# EAGLE library part ICSP_PROG_6PIN_02X03_P2.54MM (library Connector_ICSP)
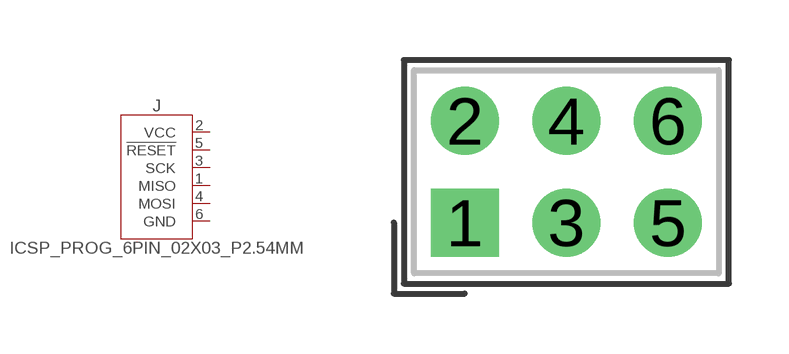
[diagram p0: symbol with the pads of 02X03_P2.54MM; footprint 02X03_P2.54MM]

Designator prefix J

## ICSP_PROG_6PIN_02X03_P2.54MM  [02X03_P2.54MM]
1  MISO  out
2  VCC  pwr
3  SCK  in
4  MOSI  in
5  !RESET  in
6  GND  pwr

## Footprint 02X03_P2.54MM (pad centres in mm)
drill 1 pad 1.7 square: 1 -2.54,-1.27
drill 1 pad 1.7: 2 -2.54,1.27; 3 0,-1.27; 4 0,1.27; 5 2.54,-1.27; 6 2.54,1.27